# Altium schematic symbol library 22-Transformers 变压器.SchLib: 52 symbols
Pins are listed as number, name and electrical type; pins without a type are passive.

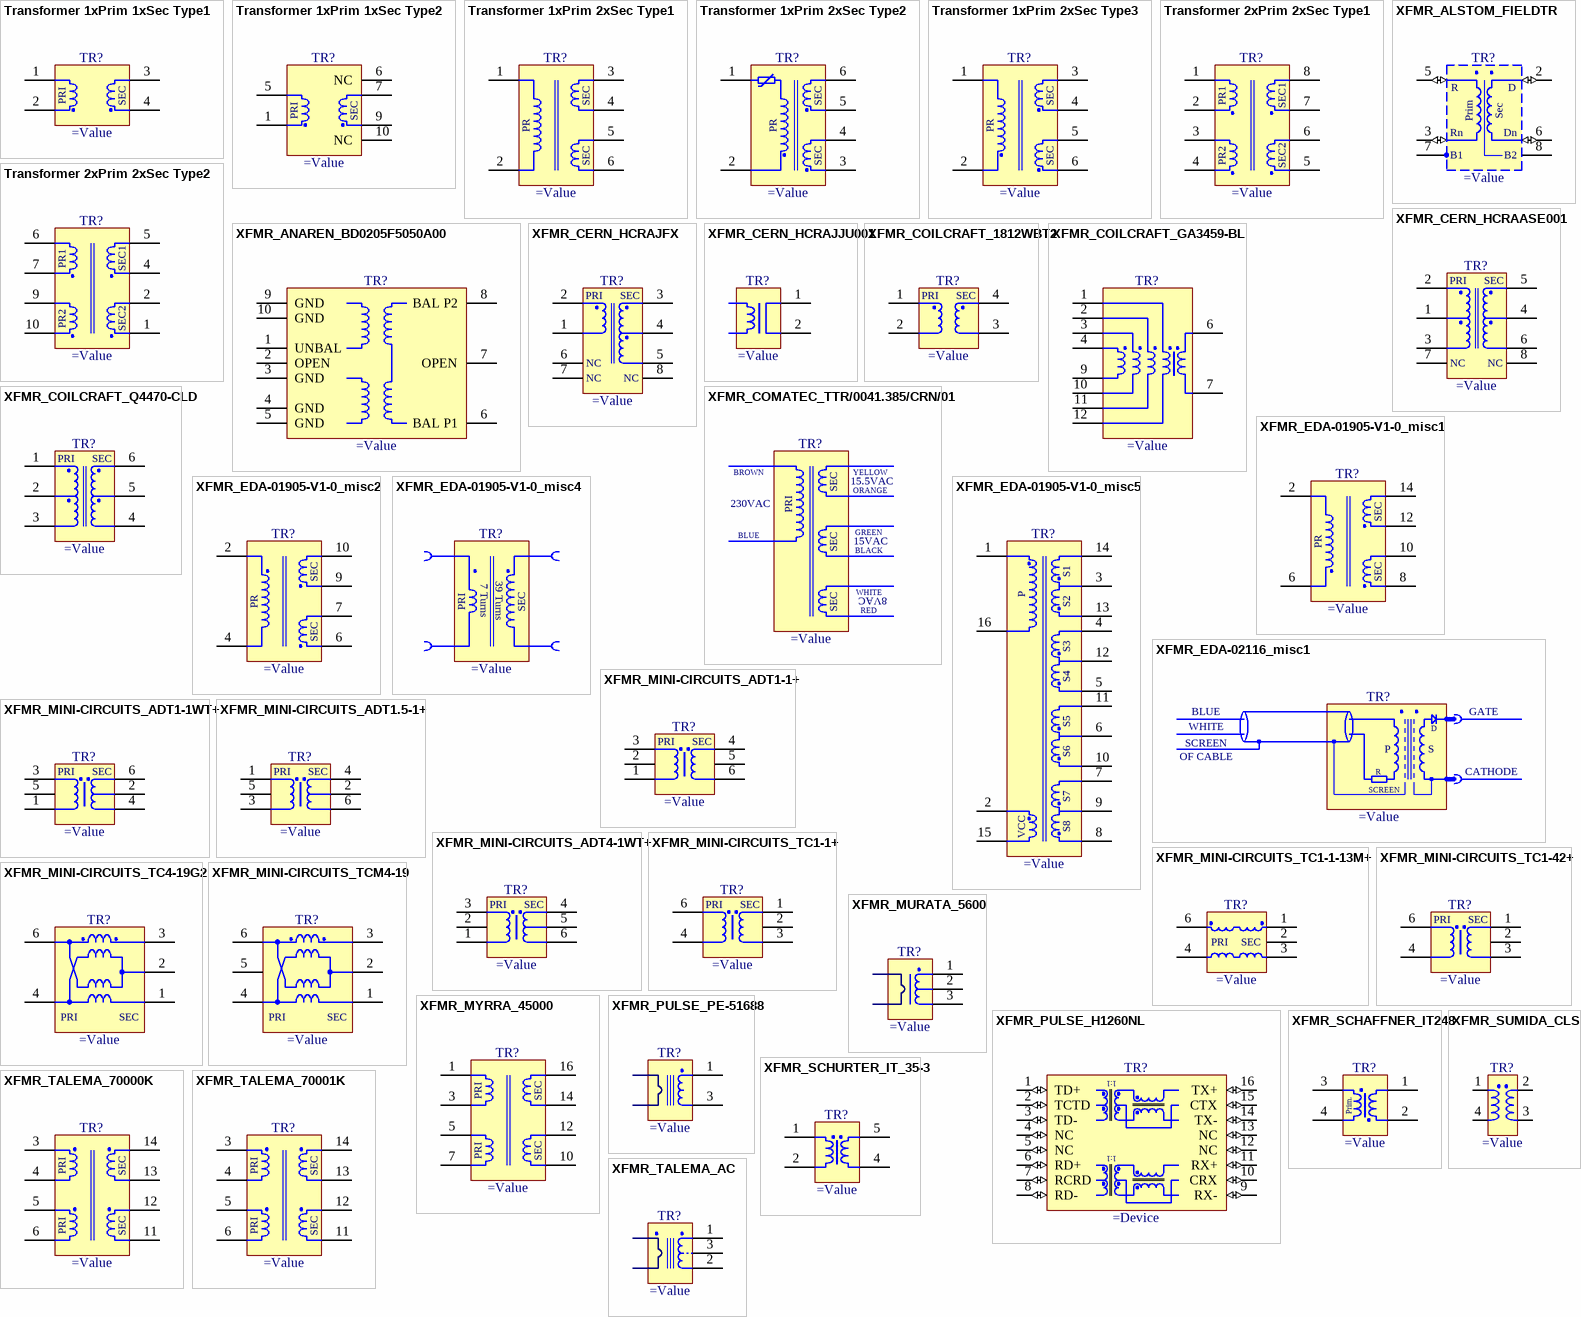
[diagram p0: symbols Transformer 1xPrim 1xSec Type1 to XFMR_TALEMA_AC]

## Transformer 1xPrim 1xSec Type1
designator TR?
Transformer 1xPrim 1xSec Type1
pins: 1, 2, 3, 4
text: PRI; SEC

## Transformer 1xPrim 1xSec Type2
designator TR?
Transformer 1xPrim 1xSec Type2
pins: 1, 5, 6 NC, 7, 9, 10 NC
text: PRI; SEC

## Transformer 1xPrim 2xSec Type1
designator TR?
Transformer 1xPrim 2xSec Type1
pins: 1, 2, 3, 4, 5, 6
text: SEC; PR

## Transformer 1xPrim 2xSec Type2
designator TR?
Transformer 1xPrim 2xSec Type2
pins: 1, 2, 3, 4, 5, 6
text: SEC; PR

## Transformer 1xPrim 2xSec Type3
designator TR?
Transformer 1xPrim 2xSec Type3
pins: 1, 2, 3, 4, 5, 6
text: SEC; PR

## Transformer 2xPrim 2xSec Type1
designator TR?
Transformer 2xPrim 2xSec Type1
pins: 1 P1, 2 P1, 3 P2, 4 P2, 5 S2, 6 S2, 7 S1, 8 S1
text: PR1; SEC1; PR2; SEC2

## Transformer 2xPrim 2xSec Type2
designator TR?
Transformer 2xPrim 2xSec Type2
pins: 1 S2, 2 S2, 4 S1, 5 S1, 6 P1, 7 P1, 9 P2, 10 P2
text: PR1; SEC1; PR2; SEC2

## XFMR_ALSTOM_FIELDTR
designator TR?
FIELDTR Transformer
pins: 2 D (io) "Input/Output pin to transceiver", 3 Rn (io) "Input/Output pin to fieldbus medium", 5 R (io) "Input/Output pin to fieldbus medium", 6 Dn (io) "Input/Output pin to transceiver", 7 B1 (power) "Internal ground (to be connected to 0 V)", 8 B2 (power) "Internal ground and shield (to be connected to 0 V)"
text: Prim; Sec

## XFMR_ANAREN_BD0205F5050A00
designator TR?
70MHz - 1000MHz Ultra Low Profile Sub-Miniature Balanced to Unbalanced Transformer
pins: 1 UNBAL, 2 OPEN, 3 GND (power), 4 GND (power), 5 GND (power), 6 BAL P1, 7 OPEN, 8 BAL P2, 9 GND (power), 10 GND (power)

## XFMR_CERN_HCRAASE001
designator TR?
CERN HF Power Transformer RM6
pins: 1 COM, 2 PDOT, 3 P, 4 COM, 5 SDOT, 6 S, 7 NC, 8 NC
text: PRI; SEC

## XFMR_CERN_HCRAJFX
designator TR?
CERN Current Transformer  RM6
pins: 1 COM, 2 PDOT, 3 SDOT, 4 COM, 5 S, 6 NC, 7 NC, 8 NC
text: PRI; SEC

## XFMR_CERN_HCRAJJU001
designator TR?
CERN HF Current transformer
pins: 1, 2

## XFMR_COILCRAFT_1812WBT2
designator TR?
Surface Mount Wideband RF Transformer
pins: 1 PDOT, 2 P, 3 S, 4 SDOT
text: PRI; SEC

## XFMR_COILCRAFT_GA3459-BL
designator TR?
Flyback Transformer
pins: 1, 2, 3, 4, 6, 7, 9, 10, 11, 12

## XFMR_COILCRAFT_Q4470-CLD
designator TR?
Miniature SMT Transformer
pins: 1 PDOT1, 2 PDOT2, 3 P, 4 S, 5 SDOT2, 6 SDOT1
text: PRI; SEC

## XFMR_COMATEC_TTR/0041.385/CRN/01
designator TR?
230VAC to 15VAC and 15.5VAC and 8VAC Toroidal 15VA Transformer
text: BROWN; YELLOW; SEC; 15.5VAC; ORANGE; 230VAC; PRI; BLUE; GREEN; 15VAC; BLACK; WHITE; 8VAC; RED

## XFMR_EDA-01905-V1-0_misc1
designator TR?
XFMR_EDA-01905-V1-0_misc1
pins: 2, 6, 8, 10, 12, 14
text: SEC; PR

## XFMR_EDA-01905-V1-0_misc2
designator TR?
XFMR_EDA-01905-V1-0_misc2
pins: 2, 4, 6, 7, 9, 10
text: SEC; PR

## XFMR_EDA-01905-V1-0_misc4
designator TR?
E55/28/21 Core + Coil Former + Spring + Clasp
text: PRI; 7 Turns; 39 Turns; SEC

## XFMR_EDA-01905-V1-0_misc5
designator TR?
HF-Power Transformer
pins: 1 PDOT, 2 VCCDOT, 3 S1, 4 S3, 5 S4DOT, 6 S5DOT, 7 S7, 8 S8, 9 S7DOT, 10 S6DOT, 11 S5, 12 S3DOT, 13 S2DOT, 14 S1, 15 VCC, 16 P
text: S2; S4; S6

## XFMR_EDA-02116_misc1
designator TR?
Transformer
text: BLUE; GATE; WHITE; D; SCREEN; P; S; OF CABLE; R; CATHODE

## XFMR_MINI-CIRCUITS_ADT1-1+
designator TR?
50 Ohm 0.15 To 400MHz RF Transformers
pins: 1 P, 2 NC, 3 PDOT, 4 SDOT, 5 NC, 6 S
text: PRI; SEC

## XFMR_MINI-CIRCUITS_ADT1-1WT+
designator TR?
75 Ohm 0.4 To 800MHz RF Transformers
pins: 1 P, 2 SCT, 3 PDOT, 4 S, 5 NC, 6 SDOT
text: PRI; SEC

## XFMR_MINI-CIRCUITS_ADT1.5-1+
designator TR?
50 Ohms 0.5 To 650MHz RF Transformers
pins: 1 PDOT, 2 SC, 3 P, 4 SDOT, 5 NU, 6 S
text: PRI; SEC

## XFMR_MINI-CIRCUITS_ADT4-1WT+
designator TR?
50 Ohm 2 To 775MHz RF Transformers
pins: 1 P, 2 NC, 3 PDOT, 4 S, 5 SCT, 6 SDOT
text: PRI; SEC

## XFMR_MINI-CIRCUITS_TC1-1+
designator TR?
50 Ohm 1.5 To 500MHz RF Transformers
pins: 1 SDOT, 2 NU, 3 S, 4 P, 6 PDOT
text: PRI; SEC

## XFMR_MINI-CIRCUITS_TC1-1-13M+
designator TR?
50 Ohms 4.5 To 3000MHz RF Transformers
pins: 1 SDOT, 2 NC, 3 S, 4 P, 6 PDOT
text: PRI; SEC

## XFMR_MINI-CIRCUITS_TC1-42+
designator TR?
50 Ohms 0.25 to 400MHz RF Transformer
pins: 1 SDOT, 2 NU, 3 S, 4 P, 6 PDOT
text: PRI; SEC

## XFMR_MINI-CIRCUITS_TC4-19G2
designator TR?
50 Ohms 10 to 1900MHz RF Transformer
pins: 1 P1, 2 P1, 3 P2, 4 P2, 6 S2
text: PRI; SEC

## XFMR_MINI-CIRCUITS_TCM4-19
designator TR?
50 OHMS 10 to 1900 MHz RF Transformer
pins: 1 P1, 2 P1, 3 P2, 4 P2, 5 S2, 6 S2
text: PRI; SEC

## XFMR_MURATA_5600
designator TR?
10A Current Sensing Transformers 5600 Serie
pins: 1 S1, 2 S2, 3 S3

## XFMR_MYRRA_45000
designator TR?
Moulded Transformer MIRRA Serie 45000
pins: 1, 3, 5, 7, 10, 12, 14, 16
text: PRI; SEC

## XFMR_PULSE_H1260NL
designator TR?
10/100BASE-T Single Port LAN Transformer Module
pins: 1 TD+ (io), 2 TCTD (io), 3 TD- (io), 4 NC (io), 5 NC (io), 6 RD+ (io), 7 RCRD (io), 8 RD- (io), 9 RX- (io), 10 CRX (io), 11 RX+ (io), 12 NC (io), 13 NC (io), 14 TX- (io), 15 CTX (io), 16 TX+ (io)
text: 1:1

## XFMR_PULSE_PE-51688
designator TR?
Low Cost 50/60Hz Current Transformers TALEMA AC Serie
pins: 1, 3

## XFMR_SCHAFFNER_IT248
designator TR?
Pulse transformers Serie IT
pins: 1, 2, 3, 4
text: Prim.

## XFMR_SCHURTER_IT_35-3
designator TR?
Pulse transformers Serie IT Case 35-3
pins: 1, 2, 4, 5

## XFMR_SUMIDA_CLS62
designator TR?
SMD Power Transformer CLS62 Serie
pins: 1, 2, 3, 4

## XFMR_TALEMA_70000K
designator TR?
Toroidal Transformer, 70000KSerie
pins: 3 PRI, 4 PRI, 5 PRI, 6 PRI, 11 SEC, 12 SEC, 13 SEC, 14 SEC

## XFMR_TALEMA_70001K
designator TR?
Toroidal Transformer, 70000KSerie
pins: 3 PRI, 4 PRI, 5 PRI, 6 PRI, 11 SEC, 12 SEC, 13 SEC, 14 SEC

## XFMR_TALEMA_AC
designator TR?
Low Cost 50/60Hz Current Transformers TALEMA AC Serie
pins: 1, 2, 3

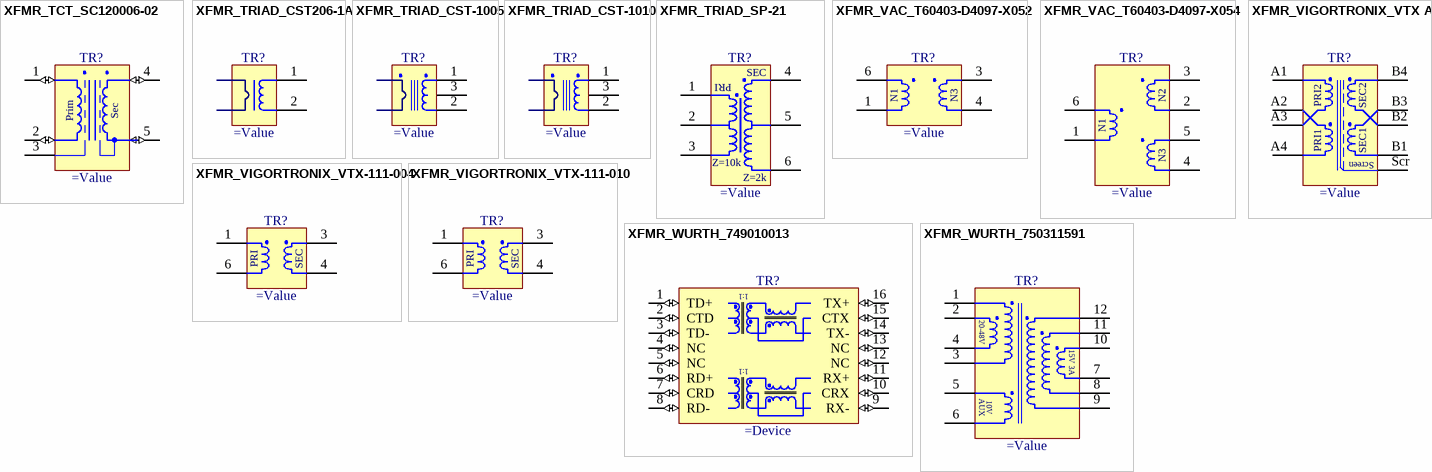
[diagram p1: symbols XFMR_TCT_SC120006-02 to XFMR_WURTH_750311591]

## XFMR_TCT_SC120006-02
designator TR?
Pulse Transformer
pins: 1 PD (io) "Input/Output pin to fieldbus medium", 2 P (io) "Input/Output pin to fieldbus medium", 3 B "Internal ground (to be connected to 0 V)", 4 SD (io) "Input/Output pin to transceiver", 5 S (io) "Input/Output pin to transceiver"
text: Prim; Sec

## XFMR_TRIAD_CST206-1A
designator TR?
110A Current Sensing Transformer
pins: 1 S1, 2 S2

## XFMR_TRIAD_CST-1005
designator TR?
5A, 50/60Hz Current Transformers
pins: 1, 2, 3

## XFMR_TRIAD_CST-1010
designator TR?
10A, 50/60Hz Current Transformers
pins: 1, 2, 3

## XFMR_TRIAD_SP-21
designator TR?
50mW Audio Transformer Primary (Z=10k, Secondary Z=2k)
pins: 1 PD1, 2 P2, 3 P3, 4 SD4, 5 S5, 6 S6
text: SEC; PRI; Z=10k; Z=2k

## XFMR_VAC_T60403-D4097-X052
designator TR?
Drive Transformer
pins: 1, 3, 4, 6
text: N1; N3

## XFMR_VAC_T60403-D4097-X054
designator TR?
Drive Transformer
pins: 1, 2, 3, 4, 5, 6
text: N2; N1; N3

## XFMR_VIGORTRONIX_VTX A
designator TR?
VIGORTRONIX VTX A-Serie Audio Range Transformer
pins: A1 PA1, A2 PA2, A3 PA3, A4 PA4, B1 SB1, B2 SB2, B3 SB3, B4 SB4, Scr Screen
text: PRI2; SEC2; PRI1; SEC1

## XFMR_VIGORTRONIX_VTX-111-004
designator TR?
Encapsulated Pulse Transformer, VTX-111 Serie
pins: 1 P-DOT, 3 S-DOT, 4 S, 6 P
text: PRI; SEC

## XFMR_VIGORTRONIX_VTX-111-010
designator TR?
Encapsulated Pulse Transformer, VTX-111 Serie
pins: 1 P-DOT, 3 S-DOT, 4 S, 6 P
text: PRI; SEC

## XFMR_WURTH_749010013
designator TR?
10/100/1000 Base-Tx  LAN Transformer
pins: 1 TD+ (io), 2 CTD (io), 3 TD- (io), 4 NC (io), 5 NC (io), 6 RD+ (io), 7 CRD (io), 8 RD- (io), 9 RX- (io), 10 CRX (io), 11 RX+ (io), 12 NC (io), 13 NC (io), 14 TX- (io), 15 CTX (io), 16 TX+ (io)
text: 1:1

## XFMR_WURTH_750311591
designator TR?
Flyback Transformer
pins: 1, 2, 3, 4, 5, 6, 7, 8, 9, 10, 11, 12
text: 20-48V; 15V 3A; AUX; 10V